# EAGLE library part MCU-ATTINY85-20SU(SOIC8) (library Seeed-OPL-IC)
310010108
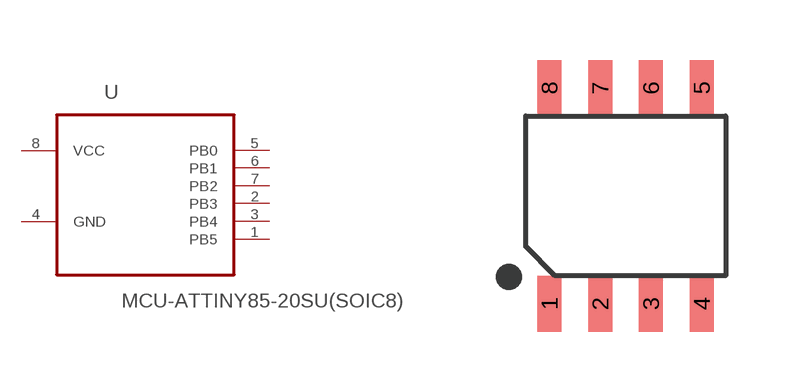
[diagram p63: symbol with the pads of SOIC8-1.27-5X4MM; footprint SOIC8-1.27-5X4MM]

Designator prefix U

## MCU-ATTINY85-20SU(SOIC8) (MPN: ATTINY85-20SU)  [SOIC8-1.27-5X4MM]
1  PB5
2  PB3
3  PB4
4  GND  pas
5  PB0
6  PB1
7  PB2
8  VCC  pwr

## Footprint SOIC8-1.27-5X4MM (pad centres in mm)
smd 0.6 x 1.4: 1 -1.905,-2.7; 2 -0.635,-2.7; 3 0.635,-2.7; 4 1.905,-2.7; 5 1.905,2.7; 6 0.635,2.7; 7 -0.635,2.7; 8 -1.905,2.7